# Altium footprint library JST_Connectors.PcbLib: 3 footprints
Each footprint in its own frame and in the unit in brackets; x right, y up, seen from the top. Pads: shape width x height; smd on the part's side, far side on the other; paste and mask are expansions set on the pad; w line width, h text height; cw(c..) or ccw(c..) is an arc to the next point about the centre after c.
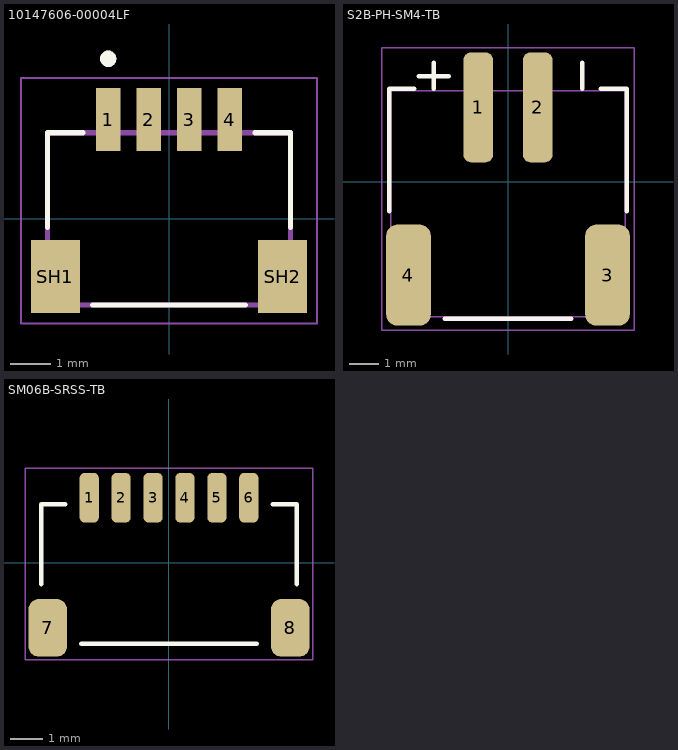
[diagram p0: the footprints below, top view; thin cyan lines are the x and y axes]

## 10147606-00004LF [mm]
height 3
pads (6):
  rect 0.6x1.55 smd: 1(-1.5,2.45) 2(-0.5,2.45) 3(0.5,2.45) 4(1.5,2.45)
  rect 1.2x1.8 smd: SH1(-2.8,-1.425) SH2(2.8,-1.425)
Top Overlay:
  circle w0.2: c-1.5,3.95 r0.1
  lines w0.127: -3,-0.205 -3,2.125 -2.12,2.125 ; -1.88,-2.125 1.88,-2.125 ; 2.12,2.125 3,2.125 3,-0.205
Mechanical 13:
  circle w0.2: c-1.5,3.95 r0.1
  lines w0.127: -3,-2.125 -3,2.125 3,2.125 3,-2.125 -3,-2.125
Mechanical 15:
  lines w0.05: -3.65,-2.575 -3.65,3.475 3.65,3.475 3.65,-2.575 -3.65,-2.575
3D body "step_temp.STEP": height 2.9, standoff 0, extent -3,-2.125 3,2.825

## S2B-PH-SM4-TB [mm] "JST PH series SMT shrouded header, 2 positions, side entry."
height 5.5
pads (4):
  rrect50% 1x3.7 smd: 1(-1,2.5) 2(1,2.5)
  rrect50% 1.5x3.4 smd: 3(3.35,-3.15) 4(-3.35,-3.15)
Top Overlay:
  lines w0.15: -4,-1 -4,3.125 -3.15,3.125 ; -3,3.55 -2,3.55 ; -2.5,3.125 -2.5,4 ; -2.125,-4.625 2.125,-4.625 ; 2.5,3.125 2.5,4 ; 3.125,3.125 4,3.125 4,-1
Mechanical 13:
  lines w0.05: -3.95,-4.55 -3.95,3.05 3.95,3.05 3.95,-4.55 -3.95,-4.55
Mechanical 15:
  lines w0.05: -4.25,-5 -4.25,4.25 -4.25,4.375 -4.25,4.5 4.25,4.5 4.25,4.375 4.25,-5 -4.25,-5
3D body "S2B-PH-SM4-TB.STEP": height 5.5, standoff -0.1, extent -3.937,-4.554 3.963,4.046

## SM06B-SRSS-TB [mm] "JST SH Series SMD Socket Connector, right-angle, 6 positions."
pads (8):
  rrect50% 0.6x1.55 smd: 1(-2.5,2.038) 2(-1.5,2.038) 3(-0.5,2.038) 4(0.5,2.038) 5(1.5,2.038) 6(2.5,2.038)
  rrect50% 1.2x1.8 smd: 7(-3.8,-2.037) 8(3.8,-2.037)
Top Overlay:
  lines w0.15: -4,-0.662 -4,-0.537 -4,1.838 -3.25,1.838 ; -2.75,-2.537 2.75,-2.537 ; 3.25,1.838 4,1.838 4,-0.537 4,-0.662
Mechanical 15:
  lines w0.05: -4.5,-3.037 -4.5,2.963 -4.375,2.963 4.5,2.963 4.5,-3.037 -4.5,-3.037
3D body "User Library-JST - SM06B-SRSS-TB (SH SERIES - 1_0mm PITCH WIRE-TO-BOARD, SMT, RA).STEP": height 2.81, standoff -0.09, extent -4,-2.538 4,2.412